# Altium schematic symbol library 76829-0106.SchLib: 1 symbol
Pins are listed as number, name and electrical type; pins without a type are passive.

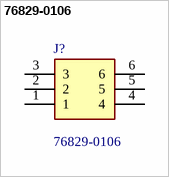
[diagram p0: symbol 76829-0106]

## 76829-0106
designator J?
Molex Mega-Fit 76829, 5.7mm Pitch, 6 Way, 2 Row, Vertical PCB Header, Through Hole; Geometry.Height: 14.8mm; Mouser Part Number: 538-76829-0106; Mouser Price/Stock: https://www.mouser.co.uk/ProductDetail/Molex/76829-0106?qs=BZBei1rCqCD%252Bpg7AxKdyaw%3D%3D; Manufacturer_Name: Molex; Manufacturer_Part_Number: 76829-0106; Datasheet Link: https://www.molex.com/pdm_docs/sd/768290106_sd.pdf
footprint 768290106
pins: 1, 2, 3, 4, 5, 6